# EAGLE library part AD677 (library harrison)
Analog Devices AD677 16-bit +/-10V ADC
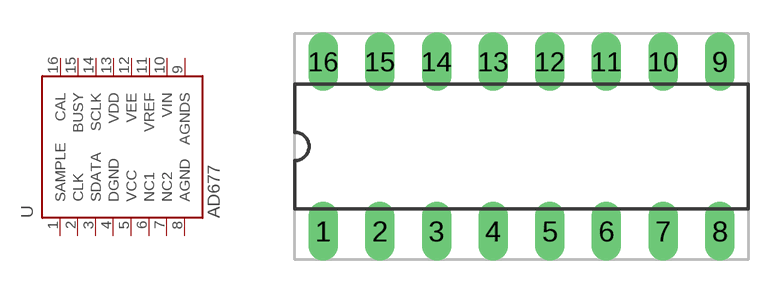
[diagram p86: symbol with the pads of DIL16; footprint DIL16]

Designator prefix U

## AD677-DIP  [DIL16]
1  SAMPLE  in
2  CLK  in
3  SDATA  out
4  DGND  pwr
5  VCC  pwr
6  NC1  nc
7  NC2  nc
8  AGND  pwr
9  AGNDS  in
10  VIN  in
11  VREF  in
12  VEE  pwr
13  VDD  pwr
14  SCLK  out
15  BUSY  out
16  CAL  in

## Footprint DIL16 (pad centres in mm)
drill 0.813 long: 1 -8.89,-3.81; 2 -6.35,-3.81; 3 -3.81,-3.81; 4 -1.27,-3.81; 5 1.27,-3.81; 6 3.81,-3.81; 7 6.35,-3.81; 8 8.89,-3.81; 9 8.89,3.81; 10 6.35,3.81; 11 3.81,3.81; 12 1.27,3.81; 13 -1.27,3.81; 14 -3.81,3.81; 15 -6.35,3.81; 16 -8.89,3.81